# Altium schematic symbol library STM32L152R6T6 replace.SCHLIB: 1 symbol
Pins are listed as number, name and electrical type; pins without a type are passive.

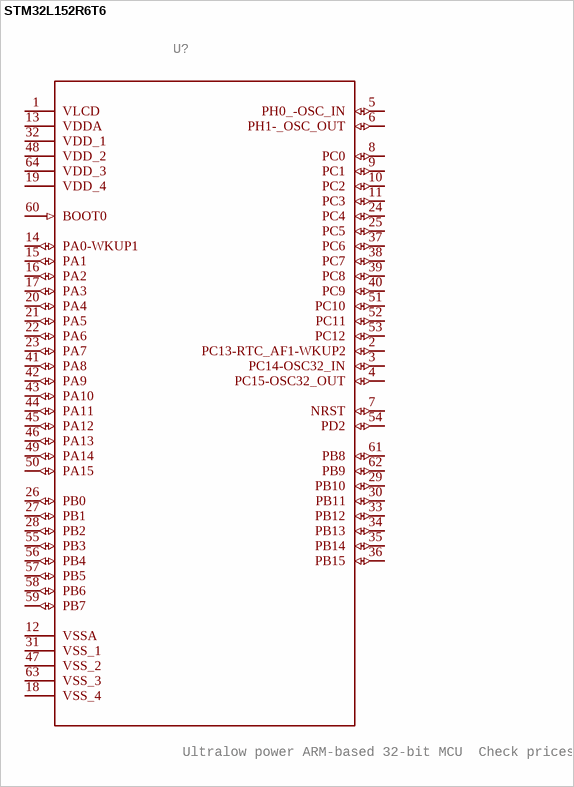
[diagram p0: symbol STM32L152R6T6]

## STM32L152R6T6
designator U?, comment Ultralow power ARM-based 32-bit MCU  Check prices
GateName_1: A; SymbolName_1: STM32L152R6T6; Description: ARM® Cortex®-M3 STM32L1 Microcontroller IC 32-Bit 32MHz 32KB (32K x 8) FLASH 64-LQFP (10x10); MF: STMicroelectronics; LibraryName: STM32L152R6T6 replace; DeviceSetName: STM32L152R6T6; Package: QFP50P1200X1200X160-64N; Price: None; Availability: Not in stock; MP: STM32L152R6T6; Package: LQFP-64 STMicroelectronics
footprint QFP50P1200X1200X160-64N
pins: 1 VLCD (power), 2 PC13-RTC_AF1-WKUP2 (io), 3 PC14-OSC32_IN (io), 4 PC15-OSC32_OUT (io), 5 PH0_-OSC_IN (io), 6 PH1-_OSC_OUT (io), 7 NRST (io), 8 PC0 (io), 9 PC1 (io), 10 PC2 (io), 11 PC3 (io), 12 VSSA (power), 13 VDDA (power), 14 PA0-WKUP1 (io), 15 PA1 (io), 16 PA2 (io), 17 PA3 (io), 18 VSS_4 (power), 19 VDD_4 (power), 20 PA4 (io), 21 PA5 (io), 22 PA6 (io), 23 PA7 (io), 24 PC4 (io), 25 PC5 (io), 26 PB0 (io), 27 PB1 (io), 28 PB2 (io), 29 PB10 (io), 30 PB11 (io), 31 VSS_1 (power), 32 VDD_1 (power), 33 PB12 (io), 34 PB13 (io), 35 PB14 (io), 36 PB15 (io), 37 PC6 (io), 38 PC7 (io), 39 PC8 (io), 40 PC9 (io), 41 PA8 (io), 42 PA9 (io), 43 PA10 (io), 44 PA11 (io), 45 PA12 (io), 46 PA13 (io), 47 VSS_2 (power), 48 VDD_2 (power), 49 PA14 (io), 50 PA15 (io), 51 PC10 (io), 52 PC11 (io), 53 PC12 (io), 54 PD2 (io), 55 PB3 (io), 56 PB4 (io), 57 PB5 (io), 58 PB6 (io), 59 PB7 (io), 60 BOOT0 (in), 61 PB8 (io), 62 PB9 (io), 63 VSS_3 (power), 64 VDD_3 (power)